# EAGLE library part CON_PINHD-2X18 (library akita)
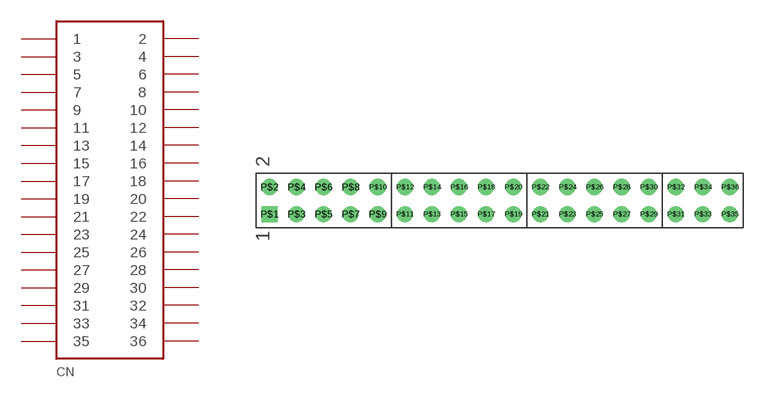
[diagram p176: symbol with the pads of 2X18R; footprint 2X18R]

Designator prefix CN

## CON_PINHD-2X18  [2X18R]
P$1  1
P$2  2
P$3  3
P$4  4
P$5  5
P$6  6
P$7  7
P$8  8
P$9  9
P$10  10
P$11  11
P$12  12
P$13  13
P$14  14
P$15  15
P$16  16
P$17  17
P$18  18
P$19  19
P$20  20
P$21  21
P$22  22
P$23  23
P$24  24
P$25  25
P$26  26
P$27  27
P$28  28
P$29  29
P$30  30
P$31  31
P$32  32
P$33  33
P$34  34
P$35  35
P$36  36

## Footprint 2X18R (pad centres in mm)
drill 1 square: P$1 -21.59,-1.27
drill 1: P$2 -21.59,1.27; P$3 -19.05,-1.27; P$4 -19.05,1.27; P$5 -16.51,-1.27; P$6 -16.51,1.27; P$7 -13.97,-1.27; P$8 -13.97,1.27; P$9 -11.43,-1.27; P$10 -11.43,1.27; P$11 -8.89,-1.27; P$12 -8.89,1.27; P$13 -6.35,-1.27; P$14 -6.35,1.27; P$15 -3.81,-1.27; P$16 -3.81,1.27; P$17 -1.27,-1.27; P$18 -1.27,1.27; P$19 1.27,-1.27; P$20 1.27,1.27; P$21 3.81,-1.27; P$22 3.81,1.27; P$23 6.35,-1.27; P$24 6.35,1.27; P$25 8.89,-1.27; P$26 8.89,1.27; P$27 11.43,-1.27; P$28 11.43,1.27; P$29 13.97,-1.27; P$30 13.97,1.27; P$31 16.51,-1.27; P$32 16.51,1.27; P$33 19.05,-1.27; P$34 19.05,1.27; P$35 21.59,-1.27; P$36 21.59,1.27